# Altium schematic symbol library Smartwatch_Lib.SchLib: 3 symbols
Pins are listed as number, name and electrical type; pins without a type are passive.

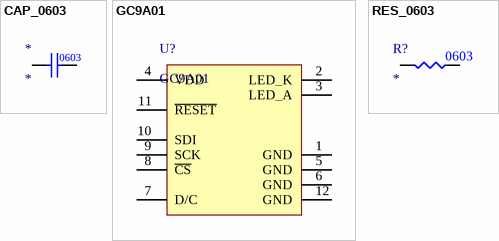
[diagram p0: symbols CAP_0603 to RES_0603]

## CAP_0603
designator *
pins: 1, 2
text: 0603

## GC9A01
designator U?
GC9A01 LCD Display
pins: 1 GND, 2 LED_K, 3 LED_A, 4 VDD, 5 GND, 6 GND, 7 D/C, 8 ~{CS}, 9 SCK, 10 SDI, 11 ~{RESET}, 12 GND

## RES_0603
designator R?
pins: 1, 2
text: 0603